# Altium schematic symbol library Schlib_RS485.SchLib: 1 symbol
Pins are listed as number, name and electrical type; pins without a type are passive.

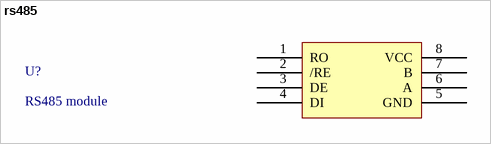
[diagram p0: symbol rs485]

## rs485
designator U?, comment RS485 module
pins: 1 RO, 2 /RE, 3 DE, 4 DI, 5 GND, 6 A, 7 B, 8 VCC